# Altium schematic symbol library SFH_4053.SchLib: 1 symbol
Pins are listed as number, name and electrical type; pins without a type are passive.

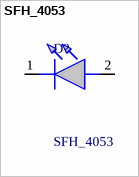
[diagram p0: symbol SFH_4053]

## SFH_4053
designator D?
IR Emitter,High Power,CHIPLED,850nm,140d Osram Opto SFH 4053 CHIPLED IR LED, 860nm, 0402 SMD package; Manufacturer_Name: ams OSRAM; Geometry.Height: 0.55mm; Manufacturer_Part_Number: SFH 4053; Mouser Part Number: 720-SFH4053; Mouser Price/Stock: https://www.mouser.co.uk/ProductDetail/OSRAM-Opto-Semiconductors/SFH-4053?qs=WFZtTl33IYKBVpRycaqUAw%3D%3D; Arrow Part Number: SFH 4053; Arrow Price/Stock: https://www.arrow.com/en/products/sfh4053/osram-opto-semiconductors?region=europe; Datasheet Link: https://datasheet.datasheetarchive.com/originals/distributors/DKDS41/DSANUWW0036892.pdf
footprint LEDC1005X55N
pins: 1 K, 2 A